# EAGLE library part GMS-G9 (library gms-g9)
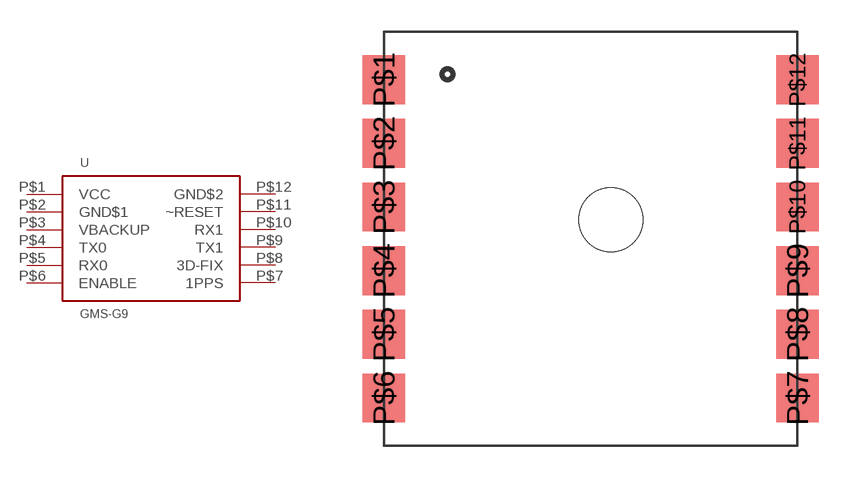
[diagram p0: symbol with the pads of GMS-G9; footprint GMS-G9]

Designator prefix -

## GMS-G9  [GMS-G9]
P$1  VCC
P$2  GND$1
P$3  VBACKUP
P$4  TX0
P$5  RX0
P$6  ENABLE
P$7  1PPS
P$8  3D-FIX
P$9  TX1
P$10  RX1
P$11  ~RESET
P$12  GND$2

## Footprint GMS-G9 (pad centres in mm)
smd 2 x 2.3: P$1 -9.75,7.5; P$2 -9.75,4.5; P$3 -9.75,1.5; P$4 -9.75,-1.5; P$5 -9.75,-4.5; P$6 -9.75,-7.5; P$7 9.75,-7.5; P$8 9.75,-4.5; P$9 9.75,-1.5; P$10 9.75,1.5; P$11 9.75,4.5; P$12 9.75,7.5
hole 3 at 0.95,0.9